# Altium schematic symbol library 22284245.SchLib: 2 symbols
Pins are listed as number, name and electrical type; pins without a type are passive.

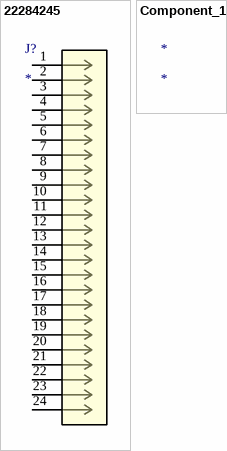
[diagram p0: symbols 22284245 to Component_1]

## 22284245
designator J?
No Description Available; Mfr_Name: Molex Connector Corporation; RefDes: RefDes; Type: Type
footprint CONN_SD-42375-001_M295_24_MOL
pins: 1, 2, 3, 4, 5, 6, 7, 8, 9, 10, 11, 12, 13, 14, 15, 16, 17, 18, 19, 20, 21, 22, 23, 24

## Component_1
designator *